# Altium footprint library Zachary_Chow_280520.PcbLib: 3 footprints
Each footprint in its own frame and in the unit in brackets; x right, y up, seen from the top. Pads: shape width x height; smd on the part's side, far side on the other; paste and mask are expansions set on the pad; w line width, h text height; cw(c..) or ccw(c..) is an arc to the next point about the centre after c.
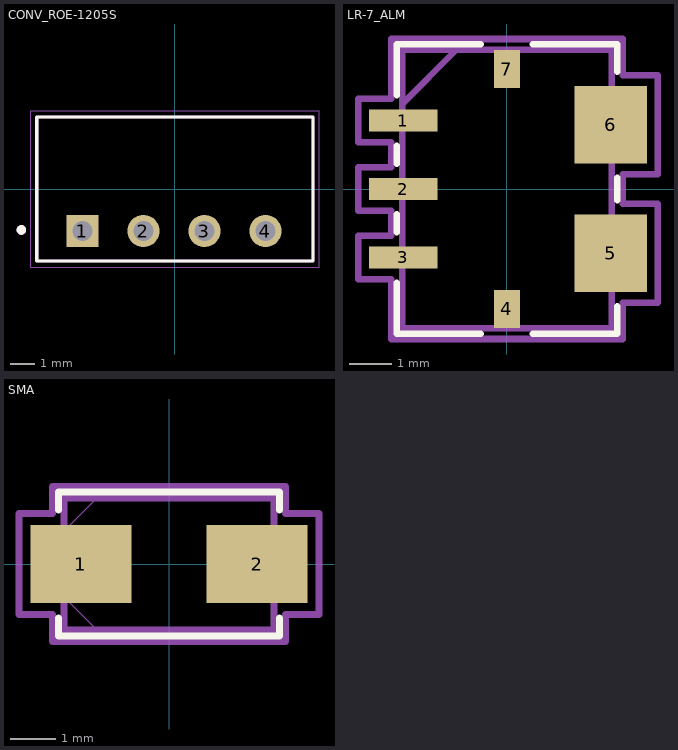
[diagram p0: the footprints below, top view; thin cyan lines are the x and y axes]

## CONV_ROE-1205S [mm]
pads (4):
  rect 1.338x1.338 hole 0.83: 1(-3.85,-1.75)
  round 1.338 hole 0.83: 2(-1.31,-1.75) 3(1.23,-1.75) 4(3.77,-1.75)
Top Overlay:
  circle w0.2: c-6.39,-1.705 r0.1
  lines w0.127: -5.75,-3 5.75,-3 5.75,3 -5.75,3 -5.75,-3
Mechanical 13:
  circle w0.2: c-6.39,-1.705 r0.1
  lines w0.127: -5.75,-3 5.75,-3 5.75,3 -5.75,3 -5.75,-3
Mechanical 15:
  lines w0.05: -6,-3.25 6,-3.25 6,3.25 -6,3.25 -6,-3.25

## LR-7_ALM [mil]
pads (7):
  rect 63x20 smd: 1(-95.47,62.99) 2(-95.47,0) 3(-95.47,-62.99)
  rect 24x35 smd: 4(0,-110.24) 7(0,110.24)
  rect 67x71 smd: 5(95.47,-59.06) 6(95.47,59.06)
Top Overlay:
  lines w6: -101.5,-86.09 -101.5,-133 -24,-133 ; -101.5,-39.89 -101.5,-23.1 ; -101.5,23.1 -101.5,39.89 ; -101.5,86.09 -101.5,133 -24,133 ; 24,-133 101.5,-133 101.5,-107.66 ; 24,133 101.5,133 101.5,107.66 ; 101.5,-10.46 101.5,10.46
Mechanical 1:
  lines w1: -96.5,78 -46.5,128 ; -96.5,-128 96.5,-128 96.5,128 -96.5,128 -96.5,-128
Mechanical 16:
  lines w6: -96.5,78 -46.5,128 ; -136.97,-82.99 -136.97,-42.99 -106.5,-42.99 -106.5,-20 -136.97,-20 -136.97,20 -106.5,20 -106.5,42.99 -136.97,42.99 -136.97,82.99 -106.5,82.99 -106.5,138 106.5,138 106.5,104.56 138.97,104.56 138.97,13.56 106.5,13.56 106.5,-13.56 138.97,-13.56 138.97,-104.56 106.5,-104.56 106.5,-138 -106.5,-138 -106.5,-82.99 -136.97,-82.99 ; -96.5,-128 -96.5,128 96.5,128 96.5,-128 -96.5,-128

## SMA [mil]
pads (2):
  rect 87x67 smd: 1(-76,0) 2(76,0)
Top Overlay:
  lines w6: -95.5,-46.6 -95.5,-62 95.5,-62 95.5,-46.6 ; -95.5,46.6 -95.5,62 95.5,62 95.5,46.6
Mechanical 1:
  lines w1: -90.5,-28.5 -62,-57 ; -90.5,28.5 -62,57 ; -105.5,-32.5 -90.5,-32.5 -90.5,32.5 -105.5,32.5 -105.5,-32.5 ; -90.5,-57 -90.5,57 90.5,57 90.5,-57 -90.5,-57 ; 90.5,-32.5 105.5,-32.5 105.5,32.5 90.5,32.5 90.5,-32.5
Mechanical 16:
  lines w6: -129.5,-43.5 -100.5,-43.5 -100.5,-67 100.5,-67 100.5,-43.5 129.5,-43.5 129.5,43.5 100.5,43.5 100.5,67 -100.5,67 -100.5,43.5 -129.5,43.5 -129.5,-43.5 ; -90.5,-57 90.5,-57 90.5,57 -90.5,57 -90.5,-57